# Altium footprint library HDRRA10W40P127_2X5_1265X750X540P.PcbLib: 1 footprints
Each footprint in its own frame and in the unit in brackets; x right, y up, seen from the top. Pads: shape width x height; smd on the part's side, far side on the other; paste and mask are expansions set on the pad; w line width, h text height; cw(c..) or ccw(c..) is an arc to the next point about the centre after c.
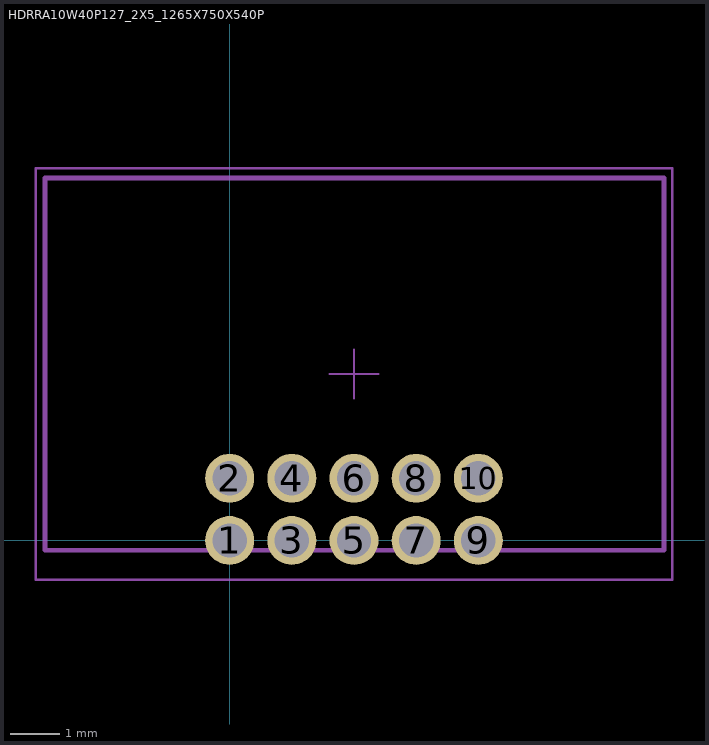
[diagram p0: the footprint, top view; thin cyan lines are the x and y axes]

## HDRRA10W40P127_2X5_1265X750X540P [mm]
pads (10):
  round 1 hole 0.7: 1(0,0) 2(0,1.27) 3(1.27,0) 4(1.27,1.27) 5(2.54,0) 6(2.54,1.27) 7(3.81,0) 8(3.81,1.27) 9(5.08,0) 10(5.08,1.27)
Mechanical 13:
  lines w0.1: -3.775,-0.2 -3.775,7.4 8.875,7.4 8.875,-0.2 -3.775,-0.2
Mechanical 15:
  lines w0.05: 2.04,3.4 3.04,3.4 ; 2.54,2.9 2.54,3.9 ; -3.96,-0.8 9.04,-0.8 9.04,7.6 -3.96,7.6 -3.96,-0.8
3D body "3220-10-0200.stp": height 5.18, standoff -2.05, extent -3.785,-0.18 8.865,7.39